# EAGLE library part ARDUINO-NANO-33-IOT/BLE (library homemade-hardware)
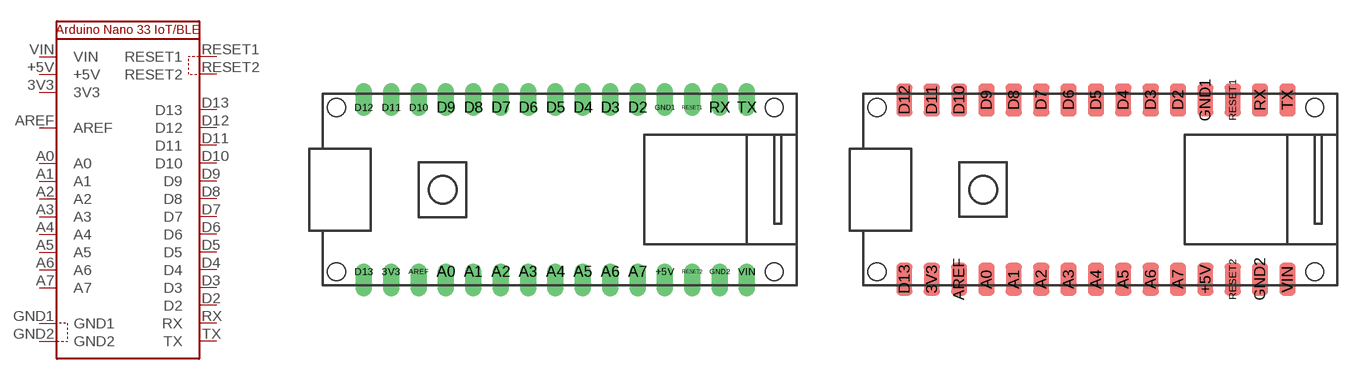
[diagram p24: symbol with the pads of ARDUINO-NANO-33-IOT/BLE-DIP; footprints ARDUINO-NANO-33-IOT/BLE-DIP, ARDUINO-NANO-33-IOT/BLE-SMD]

Designator prefix -

## ARDUINO-NANO-33-IOT/BLE-DIP  [ARDUINO-NANO-33-IOT/BLE-DIP]
3V3  3V3
+5V  +5V
A0  A0
A1  A1
A2  A2
A3  A3
A4  A4
A5  A5
A6  A6
A7  A7
AREF  AREF
D2  D2
D3  D3
D4  D4
D5  D5
D6  D6
D7  D7
D8  D8
D9  D9
D10  D10
D11  D11
D12  D12
D13  D13
GND1  GND1
GND2  GND2
RESET1  RESET1
RESET2  RESET2
RX  RX
TX  TX
VIN  VIN

## ARDUINO-NANO-33-IOT/BLE-SMD  [ARDUINO-NANO-33-IOT/BLE-SMD]
Pads as for ARDUINO-NANO-33-IOT/BLE-DIP

## Footprint ARDUINO-NANO-33-IOT/BLE-DIP (pad centres in mm)
drill 1.016 offset: 3V3 6.35,1.27; +5V 31.75,1.27; A0 11.43,1.27; A1 13.97,1.27; A2 16.51,1.27; A3 19.05,1.27; A4 21.59,1.27; A5 24.13,1.27; A6 26.67,1.27; A7 29.21,1.27; AREF 8.89,1.27; D2 29.21,16.51; D3 26.67,16.51; D4 24.13,16.51; D5 21.59,16.51; D6 19.05,16.51; D7 16.51,16.51; D8 13.97,16.51; D9 11.43,16.51; D10 8.89,16.51; D11 6.35,16.51; D12 3.81,16.51; D13 3.81,1.27; GND1 31.75,16.51; GND2 36.83,1.27; RESET1 34.29,16.51; RESET2 34.29,1.27; RX 36.83,16.51; TX 39.37,16.51; VIN 39.37,1.27

## Footprint ARDUINO-NANO-33-IOT/BLE-SMD (pad centres in mm)
smd 1.524 x 3.048: 3V3 6.35,0.572; +5V 31.75,0.572; A0 11.43,0.572; A1 13.97,0.572; A2 16.51,0.572; A3 19.05,0.572; A4 21.59,0.572; A5 24.13,0.572; A6 26.67,0.572; A7 29.21,0.572; AREF 8.89,0.572; D2 29.21,17.209; D3 26.67,17.209; D4 24.13,17.209; D5 21.59,17.209; D6 19.05,17.209; D7 16.51,17.209; D8 13.97,17.209; D9 11.43,17.209; D10 8.89,17.209; D11 6.35,17.209; D12 3.81,17.209; D13 3.81,0.572; GND1 31.75,17.209; GND2 36.83,0.572; RESET1 34.29,17.209; RESET2 34.29,0.572; RX 36.83,17.209; TX 39.37,17.209; VIN 39.37,0.572